# Altium integrated library PC817X3NSZ1B.IntLib: 1 symbol
Pins are listed as number, name and electrical type; pins without a type are passive.

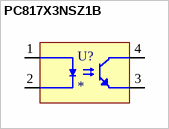
[diagram p0: symbol PC817X3NSZ1B]

## PC817X3NSZ1B
designator U?
Optoisolator Transistor Output - 1 Channel 4-DIP; MP: PC817X3NSZ1B; MF: Sharp Microelectronics; SnapEDA_Link: https://www.snapeda.com/parts/PC817X3NSZ1B/Sharp+Microelectronics/view-part/?ref=snap; Price: None; Purchase-URL: https://pricing.snapeda.com/search/part/PC817X3NSZ1B/?ref=eda; Check_prices: https://www.snapeda.com/parts/PC817X3NSZ1B/Sharp+Microelectronics/view-part/?ref=eda; Value: *; Availability: In Stock; Package: DIP-4 Sharp Microelectronics
footprint DIP762W50P254L495H455Q4
pins: 1 ANODE, 2 CATHODE, 3 EMITTER, 4 COLLECTOR